# Altium schematic symbol library WCAP-ASLU.SchLib: 59 symbols (part 1 of 2)
Pins are listed as number, name and electrical type; pins without a type are passive.

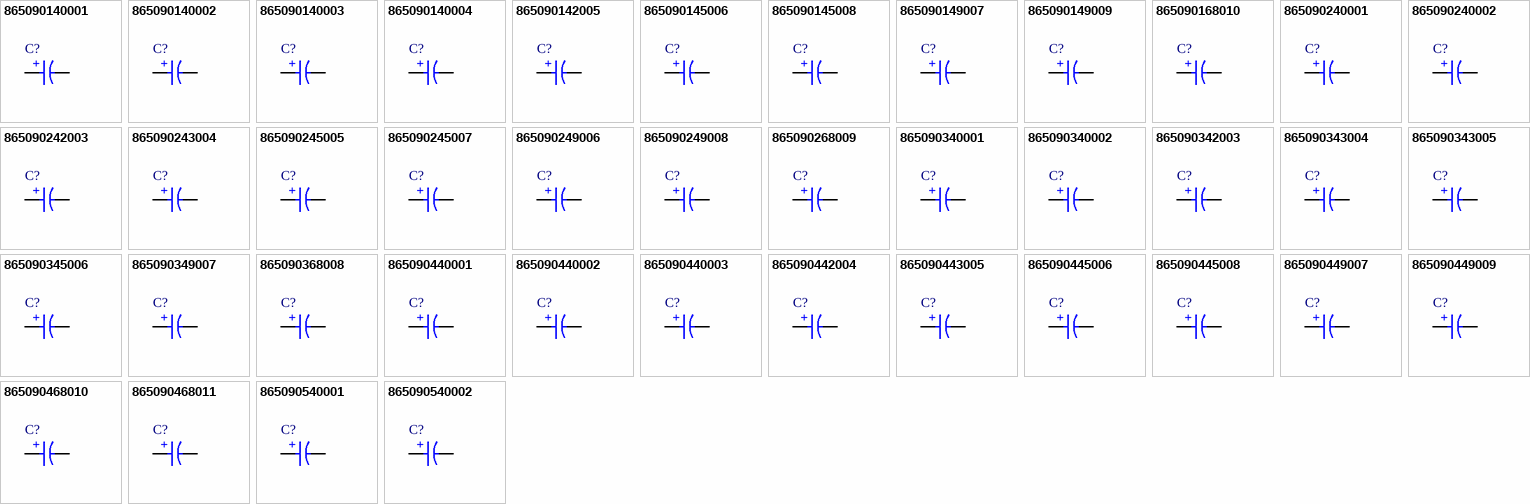
[diagram p0: symbols 865090140001 to 865090540002]

## 865090140001
designator C?, comment 10µF  (value not drawn)
WCAP-ASLU Aluminum Electrolytic Capacitor, V-Chip, SMT, 4mm x 5.5mm, 10µF, 6.3V (DC); Manufacturer Part Number: 865090140001; Manufacturer: Wurth Elektronik; Dissipation Factor: 26; Endurance: 1000h; Leakage Current: 0.4μA; Ripple Current: 15mA; Category: Aluminum Electrolytic Capacitors; Match Code: WCAP-ASLU; ComponentLink1Description: Website Link; ComponentLink1URL: https://www.we-online.com/redexpert/article/865090140001?ad; ComponentLink2Description: Datasheet Link; ComponentLink2URL: https://www.we-online.com/redexpert/spec/865090140001?ad; Mount: Surface Mount; Min Operating Temperature: -40°C; Max Operating Temperature: 85°C; Packaging: Tape and Reel; Height: 5.5mm; Diameter: 4mm; Capacitance: 10µF; Rated Voltage: 6.3V (DC)
footprint WCAP-ASLU_D4H5.5
simulation model 865090140001_10uF
pins: 1 P, 2 N
text: +

## 865090140002
designator C?, comment 22µF  (value not drawn)
WCAP-ASLU Aluminum Electrolytic Capacitor, V-Chip, SMT, 4mm x 5.5mm, 22µF, 6.3V (DC); Manufacturer Part Number: 865090140002; Manufacturer: Wurth Elektronik; Dissipation Factor: 26; Endurance: 1000h; Leakage Current: 0.4μA; Ripple Current: 28mA; Category: Aluminum Electrolytic Capacitors; Match Code: WCAP-ASLU; ComponentLink1Description: Website Link; ComponentLink1URL: https://www.we-online.com/redexpert/article/865090140002?ad; ComponentLink2Description: Datasheet Link; ComponentLink2URL: https://www.we-online.com/redexpert/spec/865090140002?ad; Mount: Surface Mount; Min Operating Temperature: -40°C; Max Operating Temperature: 85°C; Packaging: Tape and Reel; Height: 5.5mm; Diameter: 4mm; Capacitance: 22µF; Rated Voltage: 6.3V (DC)
footprint WCAP-ASLU_D4H5.5
simulation model 865090140002_22uF
pins: 1 P, 2 N
text: +

## 865090140003
designator C?, comment 33µF  (value not drawn)
WCAP-ASLU Aluminum Electrolytic Capacitor, V-Chip, SMT, 4mm x 5.5mm, 33µF, 6.3V (DC); Manufacturer Part Number: 865090140003; Manufacturer: Wurth Elektronik; Dissipation Factor: 26; Endurance: 1000h; Leakage Current: 0.5μA; Ripple Current: 37mA; Category: Aluminum Electrolytic Capacitors; Match Code: WCAP-ASLU; ComponentLink1Description: Website Link; ComponentLink1URL: https://www.we-online.com/redexpert/article/865090140003?ad; ComponentLink2Description: Datasheet Link; ComponentLink2URL: https://www.we-online.com/redexpert/spec/865090140003?ad; Mount: Surface Mount; Min Operating Temperature: -40°C; Max Operating Temperature: 85°C; Packaging: Tape and Reel; Height: 5.5mm; Diameter: 4mm; Capacitance: 33µF; Rated Voltage: 6.3V (DC)
footprint WCAP-ASLU_D4H5.5
simulation model 865090140003_33uF
pins: 1 P, 2 N
text: +

## 865090140004
designator C?, comment 47µF  (value not drawn)
WCAP-ASLU Aluminum Electrolytic Capacitor, V-Chip, SMT, 4mm x 5.5mm, 47µF, 6.3V (DC); Manufacturer Part Number: 865090140004; Manufacturer: Wurth Elektronik; Dissipation Factor: 26; Endurance: 1000h; Leakage Current: 0.6μA; Ripple Current: 45mA; Category: Aluminum Electrolytic Capacitors; Match Code: WCAP-ASLU; ComponentLink1Description: Website Link; ComponentLink1URL: https://www.we-online.com/redexpert/article/865090140004?ad; ComponentLink2Description: Datasheet Link; ComponentLink2URL: https://www.we-online.com/redexpert/spec/865090140004?ad; Mount: Surface Mount; Min Operating Temperature: -40°C; Max Operating Temperature: 85°C; Packaging: Tape and Reel; Height: 5.5mm; Diameter: 4mm; Capacitance: 47µF; Rated Voltage: 6.3V (DC)
footprint WCAP-ASLU_D4H5.5
simulation model 865090140004_47uF
pins: 1 P, 2 N
text: +

## 865090142005
designator C?, comment 100µF  (value not drawn)
WCAP-ASLU Aluminum Electrolytic Capacitor, V-Chip, SMT, 5mm x 5.5mm, 100µF, 6.3V (DC); Manufacturer Part Number: 865090142005; Manufacturer: Wurth Elektronik; Dissipation Factor: 26; Endurance: 1000h; Leakage Current: 1.3μA; Ripple Current: 70mA; Category: Aluminum Electrolytic Capacitors; Match Code: WCAP-ASLU; ComponentLink1Description: Website Link; ComponentLink1URL: https://www.we-online.com/redexpert/article/865090142005?ad; ComponentLink2Description: Datasheet Link; ComponentLink2URL: https://www.we-online.com/redexpert/spec/865090142005?ad; Mount: Surface Mount; Min Operating Temperature: -40°C; Max Operating Temperature: 85°C; Packaging: Tape and Reel; Height: 5.5mm; Diameter: 5mm; Capacitance: 100µF; Rated Voltage: 6.3V (DC)
footprint WCAP-ASLU_D5H5.5
simulation model 865090142005_100uF
pins: 1 P, 2 N
text: +

## 865090145006
designator C?, comment 220µF  (value not drawn)
WCAP-ASLU Aluminum Electrolytic Capacitor, V-Chip, SMT, 6.3mm x 7.7mm, 220µF, 6.3V (DC); Manufacturer Part Number: 865090145006; Manufacturer: Wurth Elektronik; Dissipation Factor: 26; Endurance: 1000h; Leakage Current: 2.8μA; Ripple Current: 102mA; Category: Aluminum Electrolytic Capacitors; Match Code: WCAP-ASLU; ComponentLink1Description: Website Link; ComponentLink1URL: https://www.we-online.com/redexpert/article/865090145006?ad; ComponentLink2Description: Datasheet Link; ComponentLink2URL: https://www.we-online.com/redexpert/spec/865090145006?ad; Mount: Surface Mount; Min Operating Temperature: -40°C; Max Operating Temperature: 85°C; Packaging: Tape and Reel; Height: 7.7mm; Diameter: 6.3mm; Capacitance: 220µF; Rated Voltage: 6.3V (DC)
footprint WCAP-ASLU_D6.3H7.7
simulation model 865090145006_220uF
pins: 1 P, 2 N
text: +

## 865090145008
designator C?, comment 330µF  (value not drawn)
WCAP-ASLU Aluminum Electrolytic Capacitor, V-Chip, SMT, 6.3mm x 7.7mm, 330µF, 6.3V (DC); Manufacturer Part Number: 865090145008; Manufacturer: Wurth Elektronik; Dissipation Factor: 26; Endurance: 1000h; Leakage Current: 4.2μA; Ripple Current: 155mA; Category: Aluminum Electrolytic Capacitors; Match Code: WCAP-ASLU; ComponentLink1Description: Website Link; ComponentLink1URL: https://www.we-online.com/redexpert/article/865090145008?ad; ComponentLink2Description: Datasheet Link; ComponentLink2URL: https://www.we-online.com/redexpert/spec/865090145008?ad; Mount: Surface Mount; Min Operating Temperature: -40°C; Max Operating Temperature: 85°C; Packaging: Tape and Reel; Height: 7.7mm; Diameter: 6.3mm; Capacitance: 330µF; Rated Voltage: 6.3V (DC)
footprint WCAP-ASLU_D6.3H7.7
simulation model 865090145008_330uF
pins: 1 P, 2 N
text: +

## 865090149007
designator C?, comment 220µF  (value not drawn)
WCAP-ASLU Aluminum Electrolytic Capacitor, V-Chip, SMT, 8mm x 6.5mm, 220µF, 6.3V (DC); Manufacturer Part Number: 865090149007; Manufacturer: Wurth Elektronik; Dissipation Factor: 26; Endurance: 1000h; Leakage Current: 2.8μA; Ripple Current: 110mA; Category: Aluminum Electrolytic Capacitors; Match Code: WCAP-ASLU; ComponentLink1Description: Website Link; ComponentLink1URL: https://www.we-online.com/redexpert/article/865090149007?ad; ComponentLink2Description: Datasheet Link; ComponentLink2URL: https://www.we-online.com/redexpert/spec/865090149007?ad; Mount: Surface Mount; Min Operating Temperature: -40°C; Max Operating Temperature: 85°C; Packaging: Tape and Reel; Height: 6.5mm; Diameter: 8mm; Capacitance: 220µF; Rated Voltage: 6.3V (DC)
footprint WCAP-ASLU_D8H6.5
simulation model 865090149007_220uF
pins: 1 P, 2 N
text: +

## 865090149009
designator C?, comment 330µF  (value not drawn)
WCAP-ASLU Aluminum Electrolytic Capacitor, V-Chip, SMT, 8mm x 6.5mm, 330µF, 6.3V (DC); Manufacturer Part Number: 865090149009; Manufacturer: Wurth Elektronik; Dissipation Factor: 26; Endurance: 1000h; Leakage Current: 4.2μA; Ripple Current: 170mA; Category: Aluminum Electrolytic Capacitors; Match Code: WCAP-ASLU; ComponentLink1Description: Website Link; ComponentLink1URL: https://www.we-online.com/redexpert/article/865090149009?ad; ComponentLink2Description: Datasheet Link; ComponentLink2URL: https://www.we-online.com/redexpert/spec/865090149009?ad; Mount: Surface Mount; Min Operating Temperature: -40°C; Max Operating Temperature: 85°C; Packaging: Tape and Reel; Height: 6.5mm; Diameter: 8mm; Capacitance: 330µF; Rated Voltage: 6.3V (DC)
footprint WCAP-ASLU_D8H6.5
simulation model 865090149009_330uF
pins: 1 P, 2 N
text: +

## 865090168010
designator C?, comment 22µF  (value not drawn)
WCAP-ASLU Aluminum Electrolytic Capacitor, V-Chip, SMT, 3mm x 5.5mm, 22µF, 6.3V (DC); Manufacturer Part Number: 865090168010; Manufacturer: Wurth Elektronik; Dissipation Factor: 26; Endurance: 2000h; Leakage Current: 3μA; Ripple Current: 25mA; Category: Aluminum Electrolytic Capacitors; Match Code: WCAP-ASLU; ComponentLink1Description: Website Link; ComponentLink1URL: https://www.we-online.com/redexpert/article/865090168010?ad; ComponentLink2Description: Datasheet Link; ComponentLink2URL: https://www.we-online.com/redexpert/spec/865090168010?ad; Mount: Surface Mount; Min Operating Temperature: -40°C; Max Operating Temperature: 85°C; Packaging: Tape and Reel; Height: 5.5mm; Diameter: 3mm; Capacitance: 22µF; Rated Voltage: 6.3V (DC)
footprint WCAP-ASLU_D3H5.5
simulation model 865090168010_22uF
pins: 1 P, 2 N
text: +

## 865090240001
designator C?, comment 10µF  (value not drawn)
WCAP-ASLU Aluminum Electrolytic Capacitor, V-Chip, SMT, 4mm x 5.5mm, 10µF, 10V (DC); Manufacturer Part Number: 865090240001; Manufacturer: Wurth Elektronik; Dissipation Factor: 22; Endurance: 1000h; Leakage Current: 0.4μA; Ripple Current: 23mA; Category: Aluminum Electrolytic Capacitors; Match Code: WCAP-ASLU; ComponentLink1Description: Website Link; ComponentLink1URL: https://www.we-online.com/redexpert/article/865090240001?ad; ComponentLink2Description: Datasheet Link; ComponentLink2URL: https://www.we-online.com/redexpert/spec/865090240001?ad; Mount: Surface Mount; Min Operating Temperature: -40°C; Max Operating Temperature: 85°C; Packaging: Tape and Reel; Height: 5.5mm; Diameter: 4mm; Capacitance: 10µF; Rated Voltage: 10V (DC)
footprint WCAP-ASLU_D4H5.5
simulation model 865090240001_10uF
pins: 1 P, 2 N
text: +

## 865090240002
designator C?, comment 22µF  (value not drawn)
WCAP-ASLU Aluminum Electrolytic Capacitor, V-Chip, SMT, 4mm x 5.5mm, 22µF, 10V (DC); Manufacturer Part Number: 865090240002; Manufacturer: Wurth Elektronik; Dissipation Factor: 22; Endurance: 1000h; Leakage Current: 0.5μA; Ripple Current: 33mA; Category: Aluminum Electrolytic Capacitors; Match Code: WCAP-ASLU; ComponentLink1Description: Website Link; ComponentLink1URL: https://www.we-online.com/redexpert/article/865090240002?ad; ComponentLink2Description: Datasheet Link; ComponentLink2URL: https://www.we-online.com/redexpert/spec/865090240002?ad; Mount: Surface Mount; Min Operating Temperature: -40°C; Max Operating Temperature: 85°C; Packaging: Tape and Reel; Height: 5.5mm; Diameter: 4mm; Capacitance: 22µF; Rated Voltage: 10V (DC)
footprint WCAP-ASLU_D4H5.5
simulation model 865090240002_22uF
pins: 1 P, 2 N
text: +

## 865090242003
designator C?, comment 33µF  (value not drawn)
WCAP-ASLU Aluminum Electrolytic Capacitor, V-Chip, SMT, 5mm x 5.5mm, 33µF, 10V (DC); Manufacturer Part Number: 865090242003; Manufacturer: Wurth Elektronik; Dissipation Factor: 22; Endurance: 1000h; Leakage Current: 0.7μA; Ripple Current: 41mA; Category: Aluminum Electrolytic Capacitors; Match Code: WCAP-ASLU; ComponentLink1Description: Website Link; ComponentLink1URL: https://www.we-online.com/redexpert/article/865090242003?ad; ComponentLink2Description: Datasheet Link; ComponentLink2URL: https://www.we-online.com/redexpert/spec/865090242003?ad; Mount: Surface Mount; Min Operating Temperature: -40°C; Max Operating Temperature: 85°C; Packaging: Tape and Reel; Height: 5.5mm; Diameter: 5mm; Capacitance: 33µF; Rated Voltage: 10V (DC)
footprint WCAP-ASLU_D5H5.5
simulation model 865090242003_33uF
pins: 1 P, 2 N
text: +

## 865090243004
designator C?, comment 47µF  (value not drawn)
WCAP-ASLU Aluminum Electrolytic Capacitor, V-Chip, SMT, 6.3mm x 5.5mm, 47µF, 10V (DC); Manufacturer Part Number: 865090243004; Manufacturer: Wurth Elektronik; Dissipation Factor: 22; Endurance: 1000h; Leakage Current: 1μA; Ripple Current: 52mA; Category: Aluminum Electrolytic Capacitors; Match Code: WCAP-ASLU; ComponentLink1Description: Website Link; ComponentLink1URL: https://www.we-online.com/redexpert/article/865090243004?ad; ComponentLink2Description: Datasheet Link; ComponentLink2URL: https://www.we-online.com/redexpert/spec/865090243004?ad; Mount: Surface Mount; Min Operating Temperature: -40°C; Max Operating Temperature: 85°C; Packaging: Tape and Reel; Height: 5.5mm; Diameter: 6.3mm; Capacitance: 47µF; Rated Voltage: 10V (DC)
footprint WCAP-ASLU_D6.3H5.5
simulation model 865090243004_47uF
pins: 1 P, 2 N
text: +

## 865090245005
designator C?, comment 100µF  (value not drawn)
WCAP-ASLU Aluminum Electrolytic Capacitor, V-Chip, SMT, 6.3mm x 7.7mm, 100µF, 10V (DC); Manufacturer Part Number: 865090245005; Manufacturer: Wurth Elektronik; Dissipation Factor: 22; Endurance: 1000h; Leakage Current: 2μA; Ripple Current: 75mA; Category: Aluminum Electrolytic Capacitors; Match Code: WCAP-ASLU; ComponentLink1Description: Website Link; ComponentLink1URL: https://www.we-online.com/redexpert/article/865090245005?ad; ComponentLink2Description: Datasheet Link; ComponentLink2URL: https://www.we-online.com/redexpert/spec/865090245005?ad; Mount: Surface Mount; Min Operating Temperature: -40°C; Max Operating Temperature: 85°C; Packaging: Tape and Reel; Height: 7.7mm; Diameter: 6.3mm; Capacitance: 100µF; Rated Voltage: 10V (DC)
footprint WCAP-ASLU_D6.3H7.7
simulation model 865090245005_100uF
pins: 1 P, 2 N
text: +

## 865090245007
designator C?, comment 220µF  (value not drawn)
WCAP-ASLU Aluminum Electrolytic Capacitor, V-Chip, SMT, 6.3mm x 7.7mm, 220µF, 10V (DC); Manufacturer Part Number: 865090245007; Manufacturer: Wurth Elektronik; Dissipation Factor: 22; Endurance: 1000h; Leakage Current: 4.4μA; Ripple Current: 125mA; Category: Aluminum Electrolytic Capacitors; Match Code: WCAP-ASLU; ComponentLink1Description: Website Link; ComponentLink1URL: https://www.we-online.com/redexpert/article/865090245007?ad; ComponentLink2Description: Datasheet Link; ComponentLink2URL: https://www.we-online.com/redexpert/spec/865090245007?ad; Mount: Surface Mount; Min Operating Temperature: -40°C; Max Operating Temperature: 85°C; Packaging: Tape and Reel; Height: 7.7mm; Diameter: 6.3mm; Capacitance: 220µF; Rated Voltage: 10V (DC)
footprint WCAP-ASLU_D6.3H7.7
simulation model 865090245007_220uF
pins: 1 P, 2 N
text: +

## 865090249006
designator C?, comment 100µF  (value not drawn)
WCAP-ASLU Aluminum Electrolytic Capacitor, V-Chip, SMT, 8mm x 6.5mm, 100µF, 10V (DC); Manufacturer Part Number: 865090249006; Manufacturer: Wurth Elektronik; Dissipation Factor: 22; Endurance: 1000h; Leakage Current: 2μA; Ripple Current: 80mA; Category: Aluminum Electrolytic Capacitors; Match Code: WCAP-ASLU; ComponentLink1Description: Website Link; ComponentLink1URL: https://www.we-online.com/redexpert/article/865090249006?ad; ComponentLink2Description: Datasheet Link; ComponentLink2URL: https://www.we-online.com/redexpert/spec/865090249006?ad; Mount: Surface Mount; Min Operating Temperature: -40°C; Max Operating Temperature: 85°C; Packaging: Tape and Reel; Height: 6.5mm; Diameter: 8mm; Capacitance: 100µF; Rated Voltage: 10V (DC)
footprint WCAP-ASLU_D8H6.5
simulation model 865090249006_100uF
pins: 1 P, 2 N
text: +

## 865090249008
designator C?, comment 220µF  (value not drawn)
WCAP-ASLU Aluminum Electrolytic Capacitor, V-Chip, SMT, 8mm x 6.5mm, 220µF, 10V (DC); Manufacturer Part Number: 865090249008; Manufacturer: Wurth Elektronik; Dissipation Factor: 22; Endurance: 1000h; Leakage Current: 4.4μA; Ripple Current: 135mA; Category: Aluminum Electrolytic Capacitors; Match Code: WCAP-ASLU; ComponentLink1Description: Website Link; ComponentLink1URL: https://www.we-online.com/redexpert/article/865090249008?ad; ComponentLink2Description: Datasheet Link; ComponentLink2URL: https://www.we-online.com/redexpert/spec/865090249008?ad; Mount: Surface Mount; Min Operating Temperature: -40°C; Max Operating Temperature: 85°C; Packaging: Tape and Reel; Height: 6.5mm; Diameter: 8mm; Capacitance: 220µF; Rated Voltage: 10V (DC)
footprint WCAP-ASLU_D8H6.5
simulation model 865090249008_220uF
pins: 1 P, 2 N
text: +

## 865090268009
designator C?, comment 10µF  (value not drawn)
WCAP-ASLU Aluminum Electrolytic Capacitor, V-Chip, SMT, 3mm x 5.5mm, 10µF, 10V (DC); Manufacturer Part Number: 865090268009; Manufacturer: Wurth Elektronik; Dissipation Factor: 22; Endurance: 2000h; Leakage Current: 3μA; Ripple Current: 18mA; Category: Aluminum Electrolytic Capacitors; Match Code: WCAP-ASLU; ComponentLink1Description: Website Link; ComponentLink1URL: https://www.we-online.com/redexpert/article/865090268009?ad; ComponentLink2Description: Datasheet Link; ComponentLink2URL: https://www.we-online.com/redexpert/spec/865090268009?ad; Mount: Surface Mount; Min Operating Temperature: -40°C; Max Operating Temperature: 85°C; Packaging: Tape and Reel; Height: 5.5mm; Diameter: 3mm; Capacitance: 10µF; Rated Voltage: 10V (DC)
footprint WCAP-ASLU_D3H5.5
simulation model 865090268009_10uF
pins: 1 P, 2 N
text: +

## 865090340001
designator C?, comment 4.7µF  (value not drawn)
WCAP-ASLU Aluminum Electrolytic Capacitor, V-Chip, SMT, 4mm x 5.5mm, 4.7µF, 16V (DC); Manufacturer Part Number: 865090340001; Manufacturer: Wurth Elektronik; Dissipation Factor: 18; Endurance: 1000h; Leakage Current: 0.4μA; Ripple Current: 10mA; Category: Aluminum Electrolytic Capacitors; Match Code: WCAP-ASLU; ComponentLink1Description: Website Link; ComponentLink1URL: https://www.we-online.com/redexpert/article/865090340001?ad; ComponentLink2Description: Datasheet Link; ComponentLink2URL: https://www.we-online.com/redexpert/spec/865090340001?ad; Mount: Surface Mount; Min Operating Temperature: -40°C; Max Operating Temperature: 85°C; Packaging: Tape and Reel; Height: 5.5mm; Diameter: 4mm; Capacitance: 4.7µF; Rated Voltage: 16V (DC)
footprint WCAP-ASLU_D4H5.5
simulation model 865090340001_4.7uF
pins: 1 P, 2 N
text: +

## 865090340002
designator C?, comment 10µF  (value not drawn)
WCAP-ASLU Aluminum Electrolytic Capacitor, V-Chip, SMT, 4mm x 5.5mm, 10µF, 16V (DC); Manufacturer Part Number: 865090340002; Manufacturer: Wurth Elektronik; Dissipation Factor: 18; Endurance: 1000h; Leakage Current: 0.4μA; Ripple Current: 23mA; Category: Aluminum Electrolytic Capacitors; Match Code: WCAP-ASLU; ComponentLink1Description: Website Link; ComponentLink1URL: https://www.we-online.com/redexpert/article/865090340002?ad; ComponentLink2Description: Datasheet Link; ComponentLink2URL: https://www.we-online.com/redexpert/spec/865090340002?ad; Mount: Surface Mount; Min Operating Temperature: -40°C; Max Operating Temperature: 85°C; Packaging: Tape and Reel; Height: 5.5mm; Diameter: 4mm; Capacitance: 10µF; Rated Voltage: 16V (DC)
footprint WCAP-ASLU_D4H5.5
simulation model 865090340002_10uF
pins: 1 P, 2 N
text: +

## 865090342003
designator C?, comment 22µF  (value not drawn)
WCAP-ASLU Aluminum Electrolytic Capacitor, V-Chip, SMT, 5mm x 5.5mm, 22µF, 16V (DC); Manufacturer Part Number: 865090342003; Manufacturer: Wurth Elektronik; Dissipation Factor: 18; Endurance: 1000h; Leakage Current: 0.8μA; Ripple Current: 37mA; Category: Aluminum Electrolytic Capacitors; Match Code: WCAP-ASLU; ComponentLink1Description: Website Link; ComponentLink1URL: https://www.we-online.com/redexpert/article/865090342003?ad; ComponentLink2Description: Datasheet Link; ComponentLink2URL: https://www.we-online.com/redexpert/spec/865090342003?ad; Mount: Surface Mount; Min Operating Temperature: -40°C; Max Operating Temperature: 85°C; Packaging: Tape and Reel; Height: 5.5mm; Diameter: 5mm; Capacitance: 22µF; Rated Voltage: 16V (DC)
footprint WCAP-ASLU_D5H5.5
simulation model 865090342003_22uF
pins: 1 P, 2 N
text: +

## 865090343004
designator C?, comment 33µF  (value not drawn)
WCAP-ASLU Aluminum Electrolytic Capacitor, V-Chip, SMT, 6.3mm x 5.5mm, 33µF, 16V (DC); Manufacturer Part Number: 865090343004; Manufacturer: Wurth Elektronik; Dissipation Factor: 18; Endurance: 1000h; Leakage Current: 1.1μA; Ripple Current: 49mA; Category: Aluminum Electrolytic Capacitors; Match Code: WCAP-ASLU; ComponentLink1Description: Website Link; ComponentLink1URL: https://www.we-online.com/redexpert/article/865090343004?ad; ComponentLink2Description: Datasheet Link; ComponentLink2URL: https://www.we-online.com/redexpert/spec/865090343004?ad; Mount: Surface Mount; Min Operating Temperature: -40°C; Max Operating Temperature: 85°C; Packaging: Tape and Reel; Height: 5.5mm; Diameter: 6.3mm; Capacitance: 33µF; Rated Voltage: 16V (DC)
footprint WCAP-ASLU_D6.3H5.5
simulation model 865090343004_33uF
pins: 1 P, 2 N
text: +

## 865090343005
designator C?, comment 47µF  (value not drawn)
WCAP-ASLU Aluminum Electrolytic Capacitor, V-Chip, SMT, 6.3mm x 5.5mm, 47µF, 16V (DC); Manufacturer Part Number: 865090343005; Manufacturer: Wurth Elektronik; Dissipation Factor: 18; Endurance: 1000h; Leakage Current: 1.6μA; Ripple Current: 58mA; Category: Aluminum Electrolytic Capacitors; Match Code: WCAP-ASLU; ComponentLink1Description: Website Link; ComponentLink1URL: https://www.we-online.com/redexpert/article/865090343005?ad; ComponentLink2Description: Datasheet Link; ComponentLink2URL: https://www.we-online.com/redexpert/spec/865090343005?ad; Mount: Surface Mount; Min Operating Temperature: -40°C; Max Operating Temperature: 85°C; Packaging: Tape and Reel; Height: 5.5mm; Diameter: 6.3mm; Capacitance: 47µF; Rated Voltage: 16V (DC)
footprint WCAP-ASLU_D6.3H5.5
simulation model 865090343005_47uF
pins: 1 P, 2 N
text: +

## 865090345006
designator C?, comment 100µF  (value not drawn)
WCAP-ASLU Aluminum Electrolytic Capacitor, V-Chip, SMT, 6.3mm x 7.7mm, 100µF, 16V (DC); Manufacturer Part Number: 865090345006; Manufacturer: Wurth Elektronik; Dissipation Factor: 18; Endurance: 1000h; Leakage Current: 3.2μA; Ripple Current: 85mA; Category: Aluminum Electrolytic Capacitors; Match Code: WCAP-ASLU; ComponentLink1Description: Website Link; ComponentLink1URL: https://www.we-online.com/redexpert/article/865090345006?ad; ComponentLink2Description: Datasheet Link; ComponentLink2URL: https://www.we-online.com/redexpert/spec/865090345006?ad; Mount: Surface Mount; Min Operating Temperature: -40°C; Max Operating Temperature: 85°C; Packaging: Tape and Reel; Height: 7.7mm; Diameter: 6.3mm; Capacitance: 100µF; Rated Voltage: 16V (DC)
footprint WCAP-ASLU_D6.3H7.7
simulation model 865090345006_100uF
pins: 1 P, 2 N
text: +

## 865090349007
designator C?, comment 100µF  (value not drawn)
WCAP-ASLU Aluminum Electrolytic Capacitor, V-Chip, SMT, 8mm x 6.5mm, 100µF, 16V (DC); Manufacturer Part Number: 865090349007; Manufacturer: Wurth Elektronik; Dissipation Factor: 18; Endurance: 1000h; Leakage Current: 3.2μA; Ripple Current: 92mA; Category: Aluminum Electrolytic Capacitors; Match Code: WCAP-ASLU; ComponentLink1Description: Website Link; ComponentLink1URL: https://www.we-online.com/redexpert/article/865090349007?ad; ComponentLink2Description: Datasheet Link; ComponentLink2URL: https://www.we-online.com/redexpert/spec/865090349007?ad; Mount: Surface Mount; Min Operating Temperature: -40°C; Max Operating Temperature: 85°C; Packaging: Tape and Reel; Height: 6.5mm; Diameter: 8mm; Capacitance: 100µF; Rated Voltage: 16V (DC)
footprint WCAP-ASLU_D8H6.5
simulation model 865090349007_100uF
pins: 1 P, 2 N
text: +

## 865090368008
designator C?, comment 10µF  (value not drawn)
WCAP-ASLU Aluminum Electrolytic Capacitor, V-Chip, SMT, 3mm x 5.5mm, 10µF, 16V (DC); Manufacturer Part Number: 865090368008; Manufacturer: Wurth Elektronik; Dissipation Factor: 18; Endurance: 2000h; Leakage Current: 3μA; Ripple Current: 20mA; Category: Aluminum Electrolytic Capacitors; Match Code: WCAP-ASLU; ComponentLink1Description: Website Link; ComponentLink1URL: https://www.we-online.com/redexpert/article/865090368008?ad; ComponentLink2Description: Datasheet Link; ComponentLink2URL: https://www.we-online.com/redexpert/spec/865090368008?ad; Mount: Surface Mount; Min Operating Temperature: -40°C; Max Operating Temperature: 85°C; Packaging: Tape and Reel; Height: 5.5mm; Diameter: 3mm; Capacitance: 10µF; Rated Voltage: 16V (DC)
footprint WCAP-ASLU_D3H5.5
simulation model 865090368008_10uF
pins: 1 P, 2 N
text: +

## 865090440001
designator C?, comment 3.3µF  (value not drawn)
WCAP-ASLU Aluminum Electrolytic Capacitor, V-Chip, SMT, 4mm x 5.5mm, 3.3µF, 25V (DC); Manufacturer Part Number: 865090440001; Manufacturer: Wurth Elektronik; Dissipation Factor: 16; Endurance: 1000h; Leakage Current: 0.4μA; Ripple Current: 10mA; Category: Aluminum Electrolytic Capacitors; Match Code: WCAP-ASLU; ComponentLink1Description: Website Link; ComponentLink1URL: https://www.we-online.com/redexpert/article/865090440001?ad; ComponentLink2Description: Datasheet Link; ComponentLink2URL: https://www.we-online.com/redexpert/spec/865090440001?ad; Mount: Surface Mount; Min Operating Temperature: -40°C; Max Operating Temperature: 85°C; Packaging: Tape and Reel; Height: 5.5mm; Diameter: 4mm; Capacitance: 3.3µF; Rated Voltage: 25V (DC)
footprint WCAP-ASLU_D4H5.5
simulation model 865090440001_3.3uF
pins: 1 P, 2 N
text: +

## 865090440002
designator C?, comment 4.7µF  (value not drawn)
WCAP-ASLU Aluminum Electrolytic Capacitor, V-Chip, SMT, 4mm x 5.5mm, 4.7µF, 25V (DC); Manufacturer Part Number: 865090440002; Manufacturer: Wurth Elektronik; Dissipation Factor: 16; Endurance: 1000h; Leakage Current: 0.4μA; Ripple Current: 16mA; Category: Aluminum Electrolytic Capacitors; Match Code: WCAP-ASLU; ComponentLink1Description: Website Link; ComponentLink1URL: https://www.we-online.com/redexpert/article/865090440002?ad; ComponentLink2Description: Datasheet Link; ComponentLink2URL: https://www.we-online.com/redexpert/spec/865090440002?ad; Mount: Surface Mount; Min Operating Temperature: -40°C; Max Operating Temperature: 85°C; Packaging: Tape and Reel; Height: 5.5mm; Diameter: 4mm; Capacitance: 4.7µF; Rated Voltage: 25V (DC)
footprint WCAP-ASLU_D4H5.5
simulation model 865090440002_4.7uF
pins: 1 P, 2 N
text: +

## 865090440003
designator C?, comment 10µF  (value not drawn)
WCAP-ASLU Aluminum Electrolytic Capacitor, V-Chip, SMT, 4mm x 5.5mm, 10µF, 25V (DC); Manufacturer Part Number: 865090440003; Manufacturer: Wurth Elektronik; Dissipation Factor: 16; Endurance: 1000h; Leakage Current: 0.5μA; Ripple Current: 27mA; Category: Aluminum Electrolytic Capacitors; Match Code: WCAP-ASLU; ComponentLink1Description: Website Link; ComponentLink1URL: https://www.we-online.com/redexpert/article/865090440003?ad; ComponentLink2Description: Datasheet Link; ComponentLink2URL: https://www.we-online.com/redexpert/spec/865090440003?ad; Mount: Surface Mount; Min Operating Temperature: -40°C; Max Operating Temperature: 85°C; Packaging: Tape and Reel; Height: 5.5mm; Diameter: 4mm; Capacitance: 10µF; Rated Voltage: 25V (DC)
footprint WCAP-ASLU_D4H5.5
simulation model 865090440003_10uF
pins: 1 P, 2 N
text: +

## 865090442004
designator C?, comment 22µF  (value not drawn)
WCAP-ASLU Aluminum Electrolytic Capacitor, V-Chip, SMT, 5mm x 5.5mm, 22µF, 25V (DC); Manufacturer Part Number: 865090442004; Manufacturer: Wurth Elektronik; Dissipation Factor: 16; Endurance: 1000h; Leakage Current: 1.1μA; Ripple Current: 42mA; Category: Aluminum Electrolytic Capacitors; Match Code: WCAP-ASLU; ComponentLink1Description: Website Link; ComponentLink1URL: https://www.we-online.com/redexpert/article/865090442004?ad; ComponentLink2Description: Datasheet Link; ComponentLink2URL: https://www.we-online.com/redexpert/spec/865090442004?ad; Mount: Surface Mount; Min Operating Temperature: -40°C; Max Operating Temperature: 85°C; Packaging: Tape and Reel; Height: 5.5mm; Diameter: 5mm; Capacitance: 22µF; Rated Voltage: 25V (DC)
footprint WCAP-ASLU_D5H5.5
simulation model 865090442004_22uF
pins: 1 P, 2 N
text: +

## 865090443005
designator C?, comment 33µF  (value not drawn)
WCAP-ASLU Aluminum Electrolytic Capacitor, V-Chip, SMT, 6.3mm x 5.5mm, 33µF, 25V (DC); Manufacturer Part Number: 865090443005; Manufacturer: Wurth Elektronik; Dissipation Factor: 16; Endurance: 1000h; Leakage Current: 1.7μA; Ripple Current: 52mA; Category: Aluminum Electrolytic Capacitors; Match Code: WCAP-ASLU; ComponentLink1Description: Website Link; ComponentLink1URL: https://www.we-online.com/redexpert/article/865090443005?ad; ComponentLink2Description: Datasheet Link; ComponentLink2URL: https://www.we-online.com/redexpert/spec/865090443005?ad; Mount: Surface Mount; Min Operating Temperature: -40°C; Max Operating Temperature: 85°C; Packaging: Tape and Reel; Height: 5.5mm; Diameter: 6.3mm; Capacitance: 33µF; Rated Voltage: 25V (DC)
footprint WCAP-ASLU_D6.3H5.5
simulation model 865090443005_33uF
pins: 1 P, 2 N
text: +

## 865090445006
designator C?, comment 47µF  (value not drawn)
WCAP-ASLU Aluminum Electrolytic Capacitor, V-Chip, SMT, 6.3mm x 7.7mm, 47µF, 25V (DC); Manufacturer Part Number: 865090445006; Manufacturer: Wurth Elektronik; Dissipation Factor: 16; Endurance: 1000h; Leakage Current: 2.4μA; Ripple Current: 65mA; Category: Aluminum Electrolytic Capacitors; Match Code: WCAP-ASLU; ComponentLink1Description: Website Link; ComponentLink1URL: https://www.we-online.com/redexpert/article/865090445006?ad; ComponentLink2Description: Datasheet Link; ComponentLink2URL: https://www.we-online.com/redexpert/spec/865090445006?ad; Mount: Surface Mount; Min Operating Temperature: -40°C; Max Operating Temperature: 85°C; Packaging: Tape and Reel; Height: 7.7mm; Diameter: 6.3mm; Capacitance: 47µF; Rated Voltage: 25V (DC)
footprint WCAP-ASLU_D6.3H7.7
simulation model 865090445006_47uF
pins: 1 P, 2 N
text: +

## 865090445008
designator C?, comment 100µF  (value not drawn)
WCAP-ASLU Aluminum Electrolytic Capacitor, V-Chip, SMT, 6.3mm x 7.7mm, 100µF, 25V (DC); Manufacturer Part Number: 865090445008; Manufacturer: Wurth Elektronik; Dissipation Factor: 16; Endurance: 1000h; Leakage Current: 5μA; Ripple Current: 102mA; Category: Aluminum Electrolytic Capacitors; Match Code: WCAP-ASLU; ComponentLink1Description: Website Link; ComponentLink1URL: https://www.we-online.com/redexpert/article/865090445008?ad; ComponentLink2Description: Datasheet Link; ComponentLink2URL: https://www.we-online.com/redexpert/spec/865090445008?ad; Mount: Surface Mount; Min Operating Temperature: -40°C; Max Operating Temperature: 85°C; Packaging: Tape and Reel; Height: 7.7mm; Diameter: 6.3mm; Capacitance: 100µF; Rated Voltage: 25V (DC)
footprint WCAP-ASLU_D6.3H7.7
simulation model 865090445008_100uF
pins: 1 P, 2 N
text: +

## 865090449007
designator C?, comment 47µF  (value not drawn)
WCAP-ASLU Aluminum Electrolytic Capacitor, V-Chip, SMT, 8mm x 6.5mm, 47µF, 25V (DC); Manufacturer Part Number: 865090449007; Manufacturer: Wurth Elektronik; Dissipation Factor: 16; Endurance: 1000h; Leakage Current: 2.4μA; Ripple Current: 70mA; Category: Aluminum Electrolytic Capacitors; Match Code: WCAP-ASLU; ComponentLink1Description: Website Link; ComponentLink1URL: https://www.we-online.com/redexpert/article/865090449007?ad; ComponentLink2Description: Datasheet Link; ComponentLink2URL: https://www.we-online.com/redexpert/spec/865090449007?ad; Mount: Surface Mount; Min Operating Temperature: -40°C; Max Operating Temperature: 85°C; Packaging: Tape and Reel; Height: 6.5mm; Diameter: 8mm; Capacitance: 47µF; Rated Voltage: 25V (DC)
footprint WCAP-ASLU_D8H6.5
simulation model 865090449007_47uF
pins: 1 P, 2 N
text: +

## 865090449009
designator C?, comment 100µF  (value not drawn)
WCAP-ASLU Aluminum Electrolytic Capacitor, V-Chip, SMT, 8mm x 6.5mm, 100µF, 25V (DC); Manufacturer Part Number: 865090449009; Manufacturer: Wurth Elektronik; Dissipation Factor: 16; Endurance: 1000h; Leakage Current: 5μA; Ripple Current: 110mA; Category: Aluminum Electrolytic Capacitors; Match Code: WCAP-ASLU; ComponentLink1Description: Website Link; ComponentLink1URL: https://www.we-online.com/redexpert/article/865090449009?ad; ComponentLink2Description: Datasheet Link; ComponentLink2URL: https://www.we-online.com/redexpert/spec/865090449009?ad; Mount: Surface Mount; Min Operating Temperature: -40°C; Max Operating Temperature: 85°C; Packaging: Tape and Reel; Height: 6.5mm; Diameter: 8mm; Capacitance: 100µF; Rated Voltage: 25V (DC)
footprint WCAP-ASLU_D8H6.5
simulation model 865090449009_100uF
pins: 1 P, 2 N
text: +

## 865090468010
designator C?, comment 3.3µF  (value not drawn)
WCAP-ASLU Aluminum Electrolytic Capacitor, V-Chip, SMT, 3mm x 5.5mm, 3.3µF, 25V (DC); Manufacturer Part Number: 865090468010; Manufacturer: Wurth Elektronik; Dissipation Factor: 16; Endurance: 2000h; Leakage Current: 3μA; Ripple Current: 11mA; Category: Aluminum Electrolytic Capacitors; Match Code: WCAP-ASLU; ComponentLink1Description: Website Link; ComponentLink1URL: https://www.we-online.com/redexpert/article/865090468010?ad; ComponentLink2Description: Datasheet Link; ComponentLink2URL: https://www.we-online.com/redexpert/spec/865090468010?ad; Mount: Surface Mount; Min Operating Temperature: -40°C; Max Operating Temperature: 85°C; Packaging: Tape and Reel; Height: 5.5mm; Diameter: 3mm; Capacitance: 3.3µF; Rated Voltage: 25V (DC)
footprint WCAP-ASLU_D3H5.5
simulation model 865090468010_3.3uF
pins: 1 P, 2 N
text: +

## 865090468011
designator C?, comment 4.7µF  (value not drawn)
WCAP-ASLU Aluminum Electrolytic Capacitor, V-Chip, SMT, 3mm x 5.5mm, 4.7µF, 25V (DC); Manufacturer Part Number: 865090468011; Manufacturer: Wurth Elektronik; Dissipation Factor: 16; Endurance: 2000h; Leakage Current: 3μA; Ripple Current: 15mA; Category: Aluminum Electrolytic Capacitors; Match Code: WCAP-ASLU; ComponentLink1Description: Website Link; ComponentLink1URL: https://www.we-online.com/redexpert/article/865090468011?ad; ComponentLink2Description: Datasheet Link; ComponentLink2URL: https://www.we-online.com/redexpert/spec/865090468011?ad; Mount: Surface Mount; Min Operating Temperature: -40°C; Max Operating Temperature: 85°C; Packaging: Tape and Reel; Height: 5.5mm; Diameter: 3mm; Capacitance: 4.7µF; Rated Voltage: 25V (DC)
footprint WCAP-ASLU_D3H5.5
simulation model 865090468011_4.7uF
pins: 1 P, 2 N
text: +

## 865090540001
designator C?, comment 2.2µF  (value not drawn)
WCAP-ASLU Aluminum Electrolytic Capacitor, V-Chip, SMT, 4mm x 5.5mm, 2.2µF, 35V (DC); Manufacturer Part Number: 865090540001; Manufacturer: Wurth Elektronik; Dissipation Factor: 14; Endurance: 1000h; Leakage Current: 0.4μA; Ripple Current: 8.4mA; Category: Aluminum Electrolytic Capacitors; Match Code: WCAP-ASLU; ComponentLink1Description: Website Link; ComponentLink1URL: https://www.we-online.com/redexpert/article/865090540001?ad; ComponentLink2Description: Datasheet Link; ComponentLink2URL: https://www.we-online.com/redexpert/spec/865090540001?ad; Mount: Surface Mount; Min Operating Temperature: -40°C; Max Operating Temperature: 85°C; Packaging: Tape and Reel; Height: 5.5mm; Diameter: 4mm; Capacitance: 2.2µF; Rated Voltage: 35V (DC)
footprint WCAP-ASLU_D4H5.5
simulation model 865090540001_2.2uF
pins: 1 P, 2 N
text: +

## 865090540002
designator C?, comment 3.3µF  (value not drawn)
WCAP-ASLU Aluminum Electrolytic Capacitor, V-Chip, SMT, 4mm x 5.5mm, 3.3µF, 35V (DC); Manufacturer Part Number: 865090540002; Manufacturer: Wurth Elektronik; Dissipation Factor: 14; Endurance: 1000h; Leakage Current: 0.4μA; Ripple Current: 15mA; Category: Aluminum Electrolytic Capacitors; Match Code: WCAP-ASLU; ComponentLink1Description: Website Link; ComponentLink1URL: https://www.we-online.com/redexpert/article/865090540002?ad; ComponentLink2Description: Datasheet Link; ComponentLink2URL: https://www.we-online.com/redexpert/spec/865090540002?ad; Mount: Surface Mount; Min Operating Temperature: -40°C; Max Operating Temperature: 85°C; Packaging: Tape and Reel; Height: 5.5mm; Diameter: 4mm; Capacitance: 3.3µF; Rated Voltage: 35V (DC)
footprint WCAP-ASLU_D4H5.5
simulation model 865090540002_3.3uF
pins: 1 P, 2 N
text: +

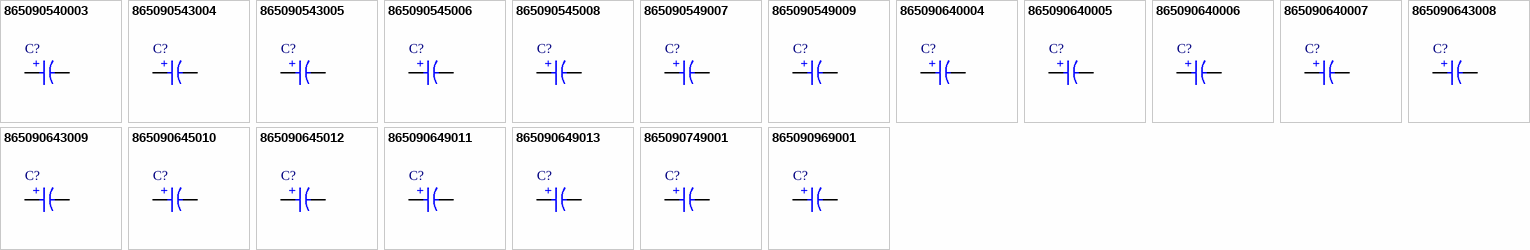
[diagram p1: symbols 865090540003 to 865090969001]

## 865090540003
designator C?, comment 4.7µF  (value not drawn)
WCAP-ASLU Aluminum Electrolytic Capacitor, V-Chip, SMT, 4mm x 5.5mm, 4.7µF, 35V (DC); Manufacturer Part Number: 865090540003; Manufacturer: Wurth Elektronik; Dissipation Factor: 14; Endurance: 1000h; Leakage Current: 0.4μA; Ripple Current: 18mA; Category: Aluminum Electrolytic Capacitors; Match Code: WCAP-ASLU; ComponentLink1Description: Website Link; ComponentLink1URL: https://www.we-online.com/redexpert/article/865090540003?ad; ComponentLink2Description: Datasheet Link; ComponentLink2URL: https://www.we-online.com/redexpert/spec/865090540003?ad; Mount: Surface Mount; Min Operating Temperature: -40°C; Max Operating Temperature: 85°C; Packaging: Tape and Reel; Height: 5.5mm; Diameter: 4mm; Capacitance: 4.7µF; Rated Voltage: 35V (DC)
footprint WCAP-ASLU_D4H5.5
simulation model 865090540003_4.7uF
pins: 1 P, 2 N
text: +

## 865090543004
designator C?, comment 10µF  (value not drawn)
WCAP-ASLU Aluminum Electrolytic Capacitor, V-Chip, SMT, 6.3mm x 5.5mm, 10µF, 35V (DC); Manufacturer Part Number: 865090543004; Manufacturer: Wurth Elektronik; Dissipation Factor: 14; Endurance: 1000h; Leakage Current: 0.7μA; Ripple Current: 29mA; Category: Aluminum Electrolytic Capacitors; Match Code: WCAP-ASLU; ComponentLink1Description: Website Link; ComponentLink1URL: https://www.we-online.com/redexpert/article/865090543004?ad; ComponentLink2Description: Datasheet Link; ComponentLink2URL: https://www.we-online.com/redexpert/spec/865090543004?ad; Mount: Surface Mount; Min Operating Temperature: -40°C; Max Operating Temperature: 85°C; Packaging: Tape and Reel; Height: 5.5mm; Diameter: 6.3mm; Capacitance: 10µF; Rated Voltage: 35V (DC)
footprint WCAP-ASLU_D6.3H5.5
simulation model 865090543004_10uF
pins: 1 P, 2 N
text: +

## 865090543005
designator C?, comment 22µF  (value not drawn)
WCAP-ASLU Aluminum Electrolytic Capacitor, V-Chip, SMT, 6.3mm x 5.5mm, 22µF, 35V (DC); Manufacturer Part Number: 865090543005; Manufacturer: Wurth Elektronik; Dissipation Factor: 14; Endurance: 1000h; Leakage Current: 1.6μA; Ripple Current: 46mA; Category: Aluminum Electrolytic Capacitors; Match Code: WCAP-ASLU; ComponentLink1Description: Website Link; ComponentLink1URL: https://www.we-online.com/redexpert/article/865090543005?ad; ComponentLink2Description: Datasheet Link; ComponentLink2URL: https://www.we-online.com/redexpert/spec/865090543005?ad; Mount: Surface Mount; Min Operating Temperature: -40°C; Max Operating Temperature: 85°C; Packaging: Tape and Reel; Height: 5.5mm; Diameter: 6.3mm; Capacitance: 22µF; Rated Voltage: 35V (DC)
footprint WCAP-ASLU_D6.3H5.5
simulation model 865090543005_22uF
pins: 1 P, 2 N
text: +

## 865090545006
designator C?, comment 33µF  (value not drawn)
WCAP-ASLU Aluminum Electrolytic Capacitor, V-Chip, SMT, 6.3mm x 7.7mm, 33µF, 35V (DC); Manufacturer Part Number: 865090545006; Manufacturer: Wurth Elektronik; Dissipation Factor: 14; Endurance: 1000h; Leakage Current: 2.4μA; Ripple Current: 58mA; Category: Aluminum Electrolytic Capacitors; Match Code: WCAP-ASLU; ComponentLink1Description: Website Link; ComponentLink1URL: https://www.we-online.com/redexpert/article/865090545006?ad; ComponentLink2Description: Datasheet Link; ComponentLink2URL: https://www.we-online.com/redexpert/spec/865090545006?ad; Mount: Surface Mount; Min Operating Temperature: -40°C; Max Operating Temperature: 85°C; Packaging: Tape and Reel; Height: 7.7mm; Diameter: 6.3mm; Capacitance: 33µF; Rated Voltage: 35V (DC)
footprint WCAP-ASLU_D6.3H7.7
simulation model 865090545006_33uF
pins: 1 P, 2 N
text: +

## 865090545008
designator C?, comment 47µF  (value not drawn)
WCAP-ASLU Aluminum Electrolytic Capacitor, V-Chip, SMT, 6.3mm x 7.7mm, 47µF, 35V (DC); Manufacturer Part Number: 865090545008; Manufacturer: Wurth Elektronik; Dissipation Factor: 14; Endurance: 1000h; Leakage Current: 3.3μA; Ripple Current: 75mA; Category: Aluminum Electrolytic Capacitors; Match Code: WCAP-ASLU; ComponentLink1Description: Website Link; ComponentLink1URL: https://www.we-online.com/redexpert/article/865090545008?ad; ComponentLink2Description: Datasheet Link; ComponentLink2URL: https://www.we-online.com/redexpert/spec/865090545008?ad; Mount: Surface Mount; Min Operating Temperature: -40°C; Max Operating Temperature: 85°C; Packaging: Tape and Reel; Height: 7.7mm; Diameter: 6.3mm; Capacitance: 47µF; Rated Voltage: 35V (DC)
footprint WCAP-ASLU_D6.3H7.7
simulation model 865090545008_47uF
pins: 1 P, 2 N
text: +

## 865090549007
designator C?, comment 33µF  (value not drawn)
WCAP-ASLU Aluminum Electrolytic Capacitor, V-Chip, SMT, 8mm x 6.5mm, 33µF, 35V (DC); Manufacturer Part Number: 865090549007; Manufacturer: Wurth Elektronik; Dissipation Factor: 14; Endurance: 1000h; Leakage Current: 2.4μA; Ripple Current: 62mA; Category: Aluminum Electrolytic Capacitors; Match Code: WCAP-ASLU; ComponentLink1Description: Website Link; ComponentLink1URL: https://www.we-online.com/redexpert/article/865090549007?ad; ComponentLink2Description: Datasheet Link; ComponentLink2URL: https://www.we-online.com/redexpert/spec/865090549007?ad; Mount: Surface Mount; Min Operating Temperature: -40°C; Max Operating Temperature: 85°C; Packaging: Tape and Reel; Height: 6.5mm; Diameter: 8mm; Capacitance: 33µF; Rated Voltage: 35V (DC)
footprint WCAP-ASLU_D8H6.5
simulation model 865090549007_33uF
pins: 1 P, 2 N
text: +

## 865090549009
designator C?, comment 47µF  (value not drawn)
WCAP-ASLU Aluminum Electrolytic Capacitor, V-Chip, SMT, 8mm x 6.5mm, 47µF, 35V (DC); Manufacturer Part Number: 865090549009; Manufacturer: Wurth Elektronik; Dissipation Factor: 14; Endurance: 1000h; Leakage Current: 3.3μA; Ripple Current: 80mA; Category: Aluminum Electrolytic Capacitors; Match Code: WCAP-ASLU; ComponentLink1Description: Website Link; ComponentLink1URL: https://www.we-online.com/redexpert/article/865090549009?ad; ComponentLink2Description: Datasheet Link; ComponentLink2URL: https://www.we-online.com/redexpert/spec/865090549009?ad; Mount: Surface Mount; Min Operating Temperature: -40°C; Max Operating Temperature: 85°C; Packaging: Tape and Reel; Height: 6.5mm; Diameter: 8mm; Capacitance: 47µF; Rated Voltage: 35V (DC)
footprint WCAP-ASLU_D8H6.5
simulation model 865090549009_47uF
pins: 1 P, 2 N
text: +

## 865090640004
designator C?, comment 0.47µF  (value not drawn)
WCAP-ASLU Aluminum Electrolytic Capacitor, V-Chip, SMT, 4mm x 5.5mm, 0.47µF, 50V (DC); Manufacturer Part Number: 865090640004; Manufacturer: Wurth Elektronik; Dissipation Factor: 12; Endurance: 1000h; Leakage Current: 0.4μA; Ripple Current: 4mA; Category: Aluminum Electrolytic Capacitors; Match Code: WCAP-ASLU; ComponentLink1Description: Website Link; ComponentLink1URL: https://www.we-online.com/redexpert/article/865090640004?ad; ComponentLink2Description: Datasheet Link; ComponentLink2URL: https://www.we-online.com/redexpert/spec/865090640004?ad; Mount: Surface Mount; Min Operating Temperature: -40°C; Max Operating Temperature: 85°C; Packaging: Tape and Reel; Height: 5.5mm; Diameter: 4mm; Capacitance: 0.47µF; Rated Voltage: 50V (DC)
footprint WCAP-ASLU_D4H5.5
simulation model 865090640004_470nF
pins: 1 P, 2 N
text: +

## 865090640005
designator C?, comment 1µF  (value not drawn)
WCAP-ASLU Aluminum Electrolytic Capacitor, V-Chip, SMT, 4mm x 5.5mm, 1µF, 50V (DC); Manufacturer Part Number: 865090640005; Manufacturer: Wurth Elektronik; Dissipation Factor: 12; Endurance: 1000h; Leakage Current: 0.4μA; Ripple Current: 8.4mA; Category: Aluminum Electrolytic Capacitors; Match Code: WCAP-ASLU; ComponentLink1Description: Website Link; ComponentLink1URL: https://www.we-online.com/redexpert/article/865090640005?ad; ComponentLink2Description: Datasheet Link; ComponentLink2URL: https://www.we-online.com/redexpert/spec/865090640005?ad; Mount: Surface Mount; Min Operating Temperature: -40°C; Max Operating Temperature: 85°C; Packaging: Tape and Reel; Height: 5.5mm; Diameter: 4mm; Capacitance: 1µF; Rated Voltage: 50V (DC)
footprint WCAP-ASLU_D4H5.5
simulation model 865090640005_1uF
pins: 1 P, 2 N
text: +

## 865090640006
designator C?, comment 2.2µF  (value not drawn)
WCAP-ASLU Aluminum Electrolytic Capacitor, V-Chip, SMT, 4mm x 5.5mm, 2.2µF, 50V (DC); Manufacturer Part Number: 865090640006; Manufacturer: Wurth Elektronik; Dissipation Factor: 12; Endurance: 1000h; Leakage Current: 0.4μA; Ripple Current: 13mA; Category: Aluminum Electrolytic Capacitors; Match Code: WCAP-ASLU; ComponentLink1Description: Website Link; ComponentLink1URL: https://www.we-online.com/redexpert/article/865090640006?ad; ComponentLink2Description: Datasheet Link; ComponentLink2URL: https://www.we-online.com/redexpert/spec/865090640006?ad; Mount: Surface Mount; Min Operating Temperature: -40°C; Max Operating Temperature: 85°C; Packaging: Tape and Reel; Height: 5.5mm; Diameter: 4mm; Capacitance: 2.2µF; Rated Voltage: 50V (DC)
footprint WCAP-ASLU_D4H5.5
simulation model 865090640006_2.2uF
pins: 1 P, 2 N
text: +

## 865090640007
designator C?, comment 3.3µF  (value not drawn)
WCAP-ASLU Aluminum Electrolytic Capacitor, V-Chip, SMT, 4mm x 5.5mm, 3.3µF, 50V (DC); Manufacturer Part Number: 865090640007; Manufacturer: Wurth Elektronik; Dissipation Factor: 12; Endurance: 1000h; Leakage Current: 0.4μA; Ripple Current: 17mA; Category: Aluminum Electrolytic Capacitors; Match Code: WCAP-ASLU; ComponentLink1Description: Website Link; ComponentLink1URL: https://www.we-online.com/redexpert/article/865090640007?ad; ComponentLink2Description: Datasheet Link; ComponentLink2URL: https://www.we-online.com/redexpert/spec/865090640007?ad; Mount: Surface Mount; Min Operating Temperature: -40°C; Max Operating Temperature: 85°C; Packaging: Tape and Reel; Height: 5.5mm; Diameter: 4mm; Capacitance: 3.3µF; Rated Voltage: 50V (DC)
footprint WCAP-ASLU_D4H5.5
simulation model 865090640007_3.3uF
pins: 1 P, 2 N
text: +

## 865090643008
designator C?, comment 4.7µF  (value not drawn)
WCAP-ASLU Aluminum Electrolytic Capacitor, V-Chip, SMT, 6.3mm x 5.5mm, 4.7µF, 50V (DC); Manufacturer Part Number: 865090643008; Manufacturer: Wurth Elektronik; Dissipation Factor: 12; Endurance: 1000h; Leakage Current: 0.5μA; Ripple Current: 20mA; Category: Aluminum Electrolytic Capacitors; Match Code: WCAP-ASLU; ComponentLink1Description: Website Link; ComponentLink1URL: https://www.we-online.com/redexpert/article/865090643008?ad; ComponentLink2Description: Datasheet Link; ComponentLink2URL: https://www.we-online.com/redexpert/spec/865090643008?ad; Mount: Surface Mount; Min Operating Temperature: -40°C; Max Operating Temperature: 85°C; Packaging: Tape and Reel; Height: 5.5mm; Diameter: 6.3mm; Capacitance: 4.7µF; Rated Voltage: 50V (DC)
footprint WCAP-ASLU_D6.3H5.5
simulation model 865090643008_4.7uF
pins: 1 P, 2 N
text: +

## 865090643009
designator C?, comment 10µF  (value not drawn)
WCAP-ASLU Aluminum Electrolytic Capacitor, V-Chip, SMT, 6.3mm x 5.5mm, 10µF, 50V (DC); Manufacturer Part Number: 865090643009; Manufacturer: Wurth Elektronik; Dissipation Factor: 12; Endurance: 1000h; Leakage Current: 1μA; Ripple Current: 33mA; Category: Aluminum Electrolytic Capacitors; Match Code: WCAP-ASLU; ComponentLink1Description: Website Link; ComponentLink1URL: https://www.we-online.com/redexpert/article/865090643009?ad; ComponentLink2Description: Datasheet Link; ComponentLink2URL: https://www.we-online.com/redexpert/spec/865090643009?ad; Mount: Surface Mount; Min Operating Temperature: -40°C; Max Operating Temperature: 85°C; Packaging: Tape and Reel; Height: 5.5mm; Diameter: 6.3mm; Capacitance: 10µF; Rated Voltage: 50V (DC)
footprint WCAP-ASLU_D6.3H5.5
simulation model 865090643009_10uF
pins: 1 P, 2 N
text: +

## 865090645010
designator C?, comment 22µF  (value not drawn)
WCAP-ASLU Aluminum Electrolytic Capacitor, V-Chip, SMT, 6.3mm x 7.7mm, 22µF, 50V (DC); Manufacturer Part Number: 865090645010; Manufacturer: Wurth Elektronik; Dissipation Factor: 12; Endurance: 1000h; Leakage Current: 2.2μA; Ripple Current: 48mA; Category: Aluminum Electrolytic Capacitors; Match Code: WCAP-ASLU; ComponentLink1Description: Website Link; ComponentLink1URL: https://www.we-online.com/redexpert/article/865090645010?ad; ComponentLink2Description: Datasheet Link; ComponentLink2URL: https://www.we-online.com/redexpert/spec/865090645010?ad; Mount: Surface Mount; Min Operating Temperature: -40°C; Max Operating Temperature: 85°C; Packaging: Tape and Reel; Height: 7.7mm; Diameter: 6.3mm; Capacitance: 22µF; Rated Voltage: 50V (DC)
footprint WCAP-ASLU_D6.3H7.7
simulation model 865090645010_22uF
pins: 1 P, 2 N
text: +

## 865090645012
designator C?, comment 33µF  (value not drawn)
WCAP-ASLU Aluminum Electrolytic Capacitor, V-Chip, SMT, 6.3mm x 7.7mm, 33µF, 50V (DC); Manufacturer Part Number: 865090645012; Manufacturer: Wurth Elektronik; Dissipation Factor: 12; Endurance: 1000h; Leakage Current: 3.3μA; Ripple Current: 66mA; Category: Aluminum Electrolytic Capacitors; Match Code: WCAP-ASLU; ComponentLink1Description: Website Link; ComponentLink1URL: https://www.we-online.com/redexpert/article/865090645012?ad; ComponentLink2Description: Datasheet Link; ComponentLink2URL: https://www.we-online.com/redexpert/spec/865090645012?ad; Mount: Surface Mount; Min Operating Temperature: -40°C; Max Operating Temperature: 85°C; Packaging: Tape and Reel; Height: 7.7mm; Diameter: 6.3mm; Capacitance: 33µF; Rated Voltage: 50V (DC)
footprint WCAP-ASLU_D6.3H7.7
simulation model 865090645012_33uF
pins: 1 P, 2 N
text: +

## 865090649011
designator C?, comment 22µF  (value not drawn)
WCAP-ASLU Aluminum Electrolytic Capacitor, V-Chip, SMT, 8mm x 6.5mm, 22µF, 50V (DC); Manufacturer Part Number: 865090649011; Manufacturer: Wurth Elektronik; Dissipation Factor: 12; Endurance: 1000h; Leakage Current: 2.2μA; Ripple Current: 52mA; Category: Aluminum Electrolytic Capacitors; Match Code: WCAP-ASLU; ComponentLink1Description: Website Link; ComponentLink1URL: https://www.we-online.com/redexpert/article/865090649011?ad; ComponentLink2Description: Datasheet Link; ComponentLink2URL: https://www.we-online.com/redexpert/spec/865090649011?ad; Mount: Surface Mount; Min Operating Temperature: -40°C; Max Operating Temperature: 85°C; Packaging: Tape and Reel; Height: 6.5mm; Diameter: 8mm; Capacitance: 22µF; Rated Voltage: 50V (DC)
footprint WCAP-ASLU_D8H6.5
simulation model 865090649011_22uF
pins: 1 P, 2 N
text: +